# EAGLE library part HDSP-711E (library library)
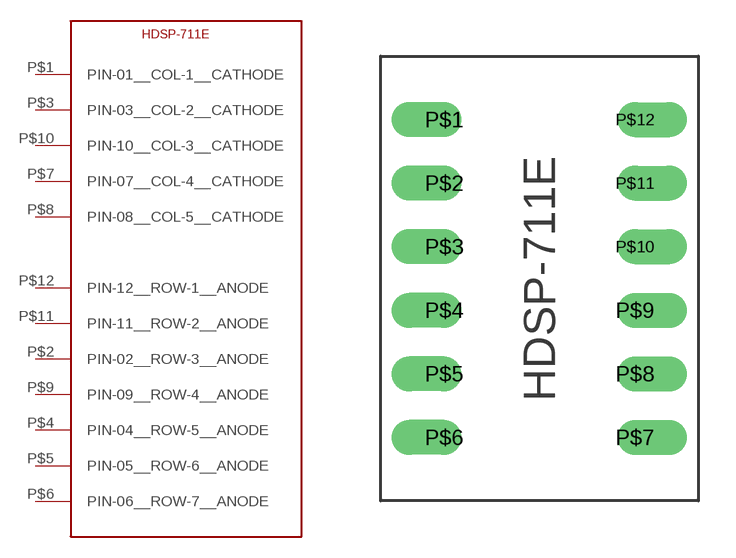
[diagram p15: symbol with the pads of HDSP-711E; footprint HDSP-711E]

Designator prefix -

## HDSP-711E  [HDSP-711E]
P$1  PIN-01__COL-1__CATHODE
P$2  PIN-02__ROW-3__ANODE
P$3  PIN-03__COL-2__CATHODE
P$4  PIN-04__ROW-5__ANODE
P$5  PIN-05__ROW-6__ANODE
P$6  PIN-06__ROW-7__ANODE
P$7  PIN-07__COL-4__CATHODE
P$8  PIN-08__COL-5__CATHODE
P$9  PIN-09__ROW-4__ANODE
P$10  PIN-10__COL-3__CATHODE
P$11  PIN-11__ROW-2__ANODE
P$12  PIN-12__ROW-1__ANODE

## Footprint HDSP-711E (pad centres in mm)
drill 0.889 pad 1.27 offset: P$1 0,0; P$2 0,-2.54; P$3 0,-5.08; P$4 0,-7.62; P$5 0,-10.16; P$6 0,-12.7; P$7 7.62,-12.7; P$8 7.62,-10.16; P$9 7.62,-7.62; P$10 7.62,-5.08; P$11 7.62,-2.54; P$12 7.62,0